# Altium footprint library WS-PBSU.PcbLib: 2 footprints
Each footprint in its own frame and in the unit in brackets; x right, y up, seen from the top. Pads: shape width x height; smd on the part's side, far side on the other; paste and mask are expansions set on the pad; w line width, h text height; cw(c..) or ccw(c..) is an arc to the next point about the centre after c.
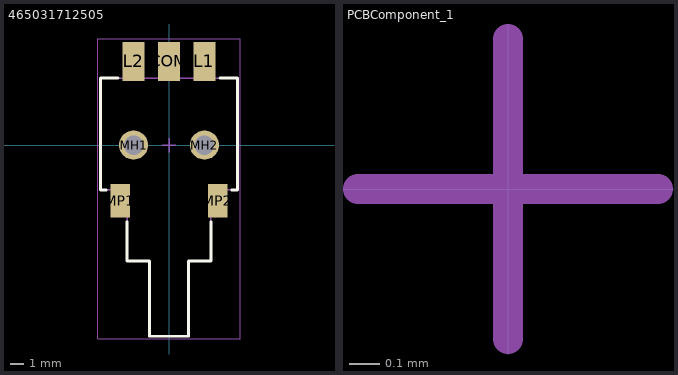
[diagram p0: the footprints below, top view; thin cyan lines are the x and y axes]

## 465031712505 [mm] "9.8 x 18.5 mm SMD side push"
height 5.9
pads (7):
  rect 1.6x2.8 smd: COM(0,6) L1(2.54,6) L2(-2.54,6)
  round 2.1 hole 1.4: MH1(-2.54,0) MH2(2.54,0)
  rect 1.4x2.4 smd: MP1(-3.5,-4) MP2(3.5,-4)
Top Overlay:
  lines w0.2: -4.5,-3.22 -4.9,-3.22 -4.9,4.8 -3.65,4.8 ; -3,-5.5 -3,-8.3 -1.4,-8.3 -1.4,-13.7 1.4,-13.7 1.4,-8.3 3,-8.3 3,-5.5 ; 3.65,4.8 4.9,4.8 4.9,-3.22 4.5,-3.22
Top Assembly:
  lines w0.1: -3.14,4.8 -3.14,6.9 -1.94,6.9 -1.94,4.8 ; -0.6,4.8 -0.6,6.9 0.6,6.9 0.6,4.8 ; 1.94,4.8 1.94,6.9 3.14,6.9 3.14,4.8 ; -4.9,-3.22 -3,-3.22 -3,-8.3 -1.4,-8.3 -1.4,-13.7 1.4,-13.7 1.4,-8.3 3,-8.3 3,-3.22 4.9,-3.22 4.9,4.8 -4.9,4.8 -4.9,-3.22
Top Designator:
  text ".Designator" at -3.647,-0.357 h1
Top Courtyard:
  lines w0.05: -5.1,-13.9 -5.1,7.6 5.1,7.6 5.1,-13.9 -5.1,-13.9
Top Component Center:
  lines w0.1: -0.5,0 0.5,0 ; 0,-0.5 0,0.5
3D body "465031712505.stp": height 5.89, standoff -1.19, extent -4.9,-13.7 4.9,6.9

## PCBComponent_1 [mm]
Top Designator:
  text ".Designator" at -3.647,-0.357 h1
Top Component Center:
  lines w0.1: -0.5,0 0.5,0 ; 0,-0.5 0,0.5